# Altium footprint library SOT94P280X100-5N.PcbLib: 1 footprints
Each footprint in its own frame and in the unit in brackets; x right, y up, seen from the top. Pads: shape width x height; smd on the part's side, far side on the other; paste and mask are expansions set on the pad; w line width, h text height; cw(c..) or ccw(c..) is an arc to the next point about the centre after c.
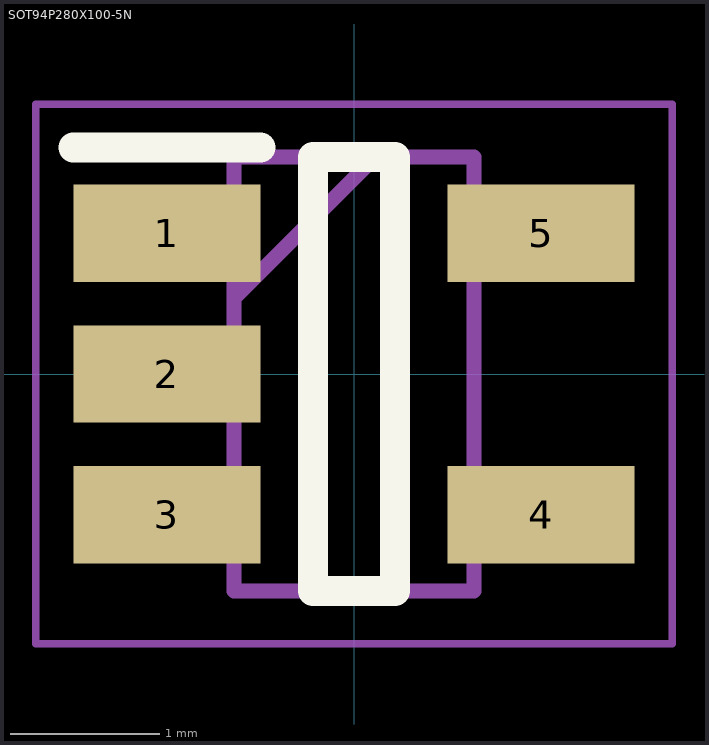
[diagram p0: the footprint, top view; thin cyan lines are the x and y axes]

## SOT94P280X100-5N [mm]
pads (5):
  rect 1.25x0.65 smd: 1(-1.25,0.94) 2(-1.25,0) 3(-1.25,-0.94) 4(1.25,-0.94) 5(1.25,0.94)
Top Overlay:
  lines w0.2: -1.875,1.514 -0.625,1.514 ; -0.275,-1.448 0.275,-1.448 0.275,1.448 -0.275,1.448 -0.275,-1.448
Mechanical 15:
  lines w0.1: -0.8,0.508 0.14,1.448 ; -0.8,-1.448 0.8,-1.448 0.8,1.448 -0.8,1.448 -0.8,-1.448
Mechanical 20:
  lines w0.05: -2.125,-1.8 2.125,-1.8 2.125,1.8 -2.125,1.8 -2.125,-1.8